# Altium integrated library KeetV2.IntLib: 72 symbols (part 3 of 3)
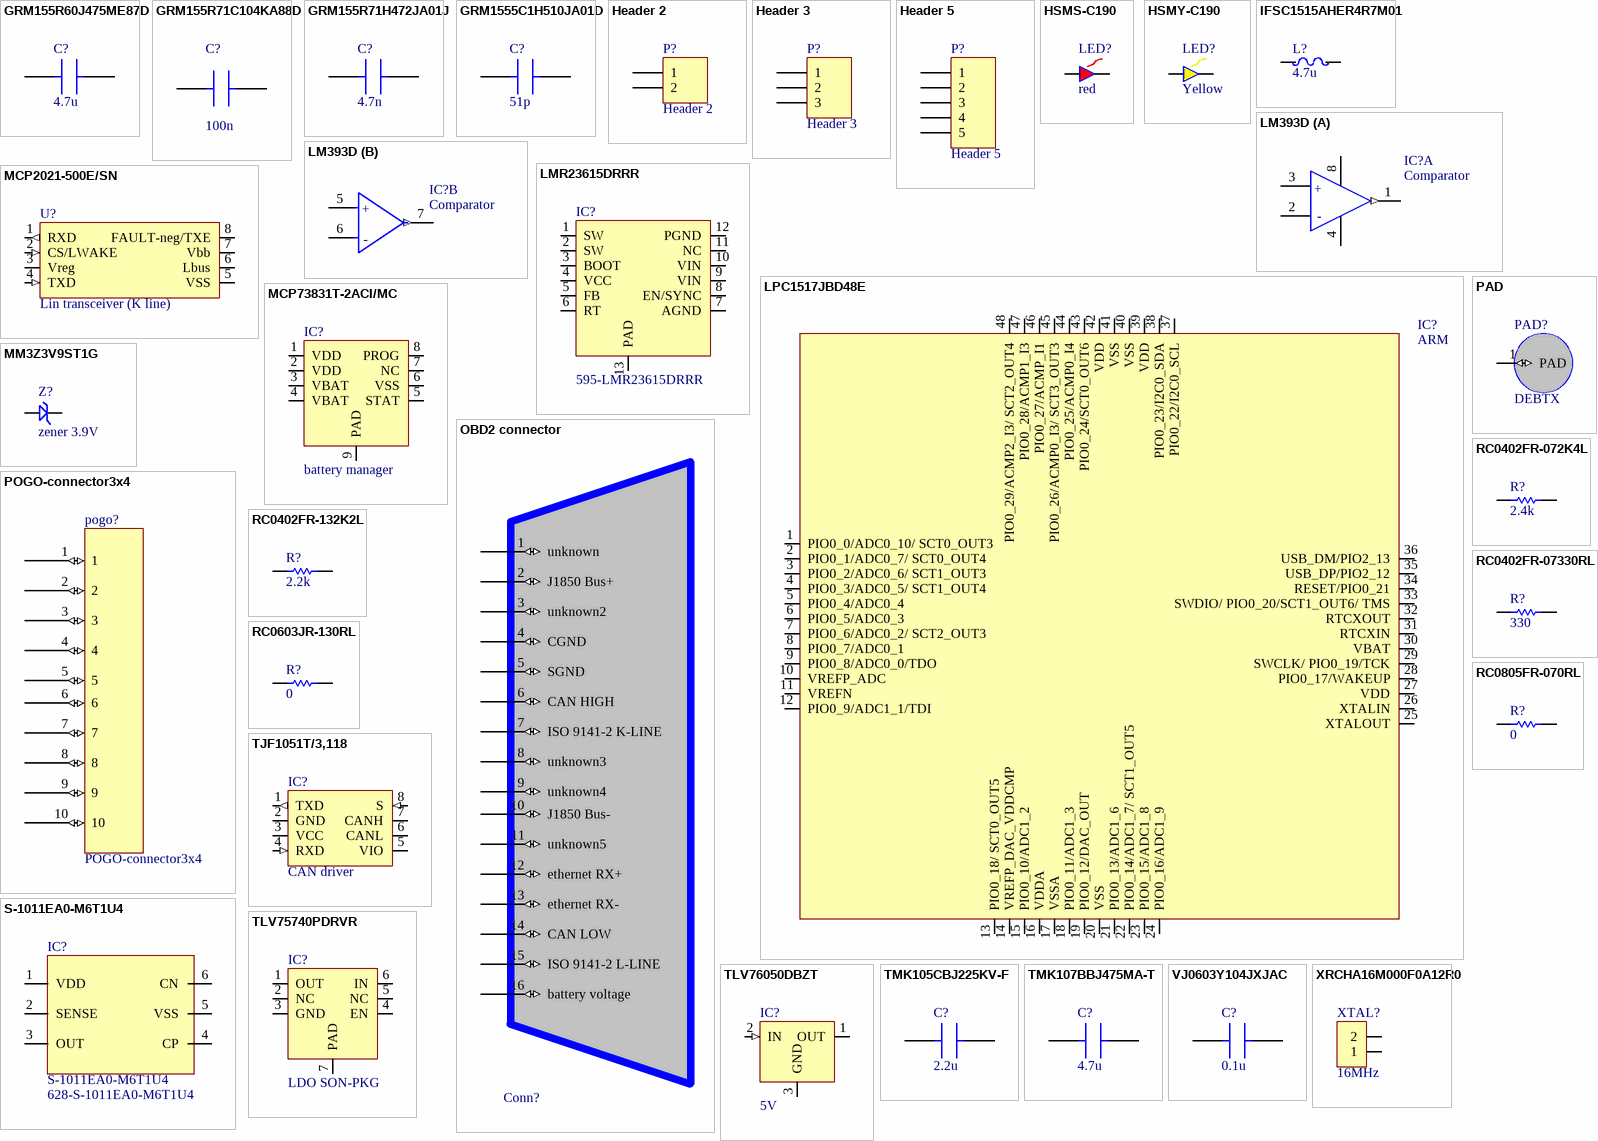
[diagram p3: symbols GRM155R60J475ME87D to XRCHA16M000F0A12R0]

## GRM155R71C104KA88D
designator C?, comment 100n
CAP CER 0.1UF 16V X7R 0402; Manufacturer: Murata; Manufacturer Part Number: GRM155R71C104KA88D; Material: Ceramic; Capacitance: 100nF; Tolerance: 10%; Insulation Resistance: 10GR; Supplier 1: Mouser; RoHS: Yes; Category: Ceramic Capacitors; Stock 1: 8059685; Pricing 1: 1=0,10000, 10=0,01200, 50=0,01200, 100=0,01000, 1000=0,00600, 10000=0,00300 (USD); Mount: Surface Mount; Case/Package: 0402; Number of Pins: 2; Case Code (Metric): 1005; Case Code (Imperial): 0402; Dielectric Material: Ceramic; Min Operating Temperature: -55°C; Max Operating Temperature: 125°C; Dielectric: X7R; Voltage Rating: 16V; Packaging: Tape and Reel; Voltage Rating (DC): 16V; Package Quantity: 1; Termination: SMD/SMT; Voltage: 16V; Length: 1mm; Width: 0.5mm; Height: 0.5mm; Thickness: 0.022inch; Depth: 0.5mm; Radiation Hardening: No; REACH SVHC: No SVHC; Lead Free: Lead Free; RoHS Compliant: Yes; ComponentLink1URL: https://datasheet.ciiva.com/18102/getdatasheetpartid-85307-18102905.pdf?src-supplier=Verical; ComponentLink1Description: https://datasheet.ciiva.com/18102/getdatasheetpartid-85307-18102905.pdf?src-supplier=Verical; ComponentLink2URL: https://datasheet.ciiva.com/129/grm155r71c104ka88-01-129739.pdf?src-supplier=Digi-Key; ComponentLink2Description: https://datasheet.ciiva.com/129/grm155r71c104ka88-01-129739.pdf?src-supplier=Digi-Key; ComponentLink3URL: https://datasheet.ciiva.com/129/grm155r71c104ka88-01-129740.pdf?src-supplier=Digi-Key; ComponentLink3Description: https://datasheet.ciiva.com/129/grm155r71c104ka88-01-129740.pdf?src-supplier=Digi-Key; ComponentLink4URL: https://datasheet.ciiva.com/29199/454098-da-01-en-vs-kondensator-0402-29199799.pdf?src-supplier=Conrad; ComponentLink4Description: https://datasheet.ciiva.com/29199/454098-da-01-en-vs-kondensator-0402-29199799.pdf?src-supplier=Conrad; ComponentLink5URL: https://datasheet.ciiva.com/28534/4360-28534133.pdf?src-supplier=Element14; ComponentLink5Description: https://datasheet.ciiva.com/28534/4360-28534133.pdf?src-supplier=Element14; ComponentLink6URL: https://datasheet.ciiva.com/14103/grmseries-highdielectrictype-eng-14103750.pdf?src-supplier=Distrelec; ComponentLink6Description: https://datasheet.ciiva.com/14103/grmseries-highdielectrictype-eng-14103750.pdf?src-supplier=Distrelec; ComponentLink7URL: https://datasheet.ciiva.com/16199/product-16199000.pdf?src-supplier=Future+Electronics; ComponentLink7Description: https://datasheet.ciiva.com/16199/product-16199000.pdf?src-supplier=Future+Electronics; ComponentLink8URL: https://datasheet.ciiva.com/14116/grmseries-highdielectrictype-eng-14116878.pdf?src-supplier=Distrelec; ComponentLink8Description: https://datasheet.ciiva.com/14116/grmseries-highdielectrictype-eng-14116878.pdf?src-supplier=Distrelec; ComponentLink9URL: https://datasheet.ciiva.com/7937/4360-7937615.pdf?src-supplier=Element14; ComponentLink9Description: https://datasheet.ciiva.com/7937/4360-7937615.pdf?src-supplier=Element14; ComponentLink10URL: https://datasheet.ciiva.com/28534/4360-28534127.pdf?src-supplier=Element14; ComponentLink10Description: https://datasheet.ciiva.com/28534/4360-28534127.pdf?src-supplier=Element14; Supplier Part Number 1: 81-GRM155R71C104KA88
footprint CAPC1005X06N (Chip Capacitor, 0420, 2-Leads, Body 1,02x0,50mm, IPC Medium Density)
pins: 1, 2

## GRM155R71H472JA01J
designator C?, comment 4.7n
Multilayer Ceramic Capacitors MLCC - SMD/SMT; Manufacturer: Murata; Manufacturer Part Number: GRM155R71H472JA01J; Dielectric: X7R; Capacitance: 4.7nF; Voltage Rating (DC): 50V; Tolerance: 5%; Supplier 1: Mouser; RoHS: Yes; Category: Ceramic Capacitors; Stock 1: 49652; Pricing 1: 1=0,10000, 10=0,03400, 50=0,03400, 100=0,01500, 1000=0,00900, 10000=0,00600 (USD); Case/Package: 0402; Case Code (Imperial): 0402; Case Code (Metric): 1005; Weight: 0.000212oz; Min Operating Temperature: -55°C; Max Operating Temperature: 125°C; Packaging: Tape and Reel; Termination: SMD/SMT; Package Quantity: 50000; Length: 1mm; Width: 0.5mm; Height: 0.5mm; Thickness: 500um; RoHS Compliant: Yes; ComponentLink1URL: http://www.mouser.com/ds/2/281/c02e-2905.pdf?src-supplier=Mouser; ComponentLink1Description: http://www.mouser.com/ds/2/281/c02e-2905.pdf?src-supplier=Mouser; Supplier Part Number 1: 81-GRM155R71H472JA1J
footprint CAPC1005X06N (Chip Capacitor, 0420, 2-Leads, Body 1,02x0,50mm, IPC Medium Density)
pins: 1, 2

## GRM1555C1H510JA01D
designator C?, comment 51p
CAP CER 51PF 50V C0G/NP0 0402; Manufacturer: Murata; Manufacturer Part Number: GRM1555C1H510JA01D; Tolerance: 5%; Dielectric: C0G; Supplier 1: Mouser; RoHS: Yes; Category: Ceramic Capacitors; Stock 1: 25277; Pricing 1: 1=0,10000, 10=0,06000, 50=0,06000, 100=0,02600, 1000=0,01400, 10000=0,01100 (USD); Mount: Surface Mount; Case/Package: 0402; Case Code (Metric): 1005; Case Code (Imperial): 0402; Min Operating Temperature: -55°C; Max Operating Temperature: 125°C; Capacitance: 51pF; Packaging: Tape and Reel; Voltage Rating: 50V; Package Quantity: 10000; Voltage Rating (DC): 50V; Termination: SMD/SMT; Voltage: 50V; Length: 1mm; Width: 0.02inch; Height: 0.5mm; Thickness: 0.022inch; Depth: 0.5mm; Radiation Hardening: No; Lead Free: Lead Free; ComponentLink1URL: https://datasheet.ciiva.com/11606/product-11606259.pdf?src-supplier=Avnet; ComponentLink1Description: https://datasheet.ciiva.com/11606/product-11606259.pdf?src-supplier=Avnet; ComponentLink2URL: https://datasheet.ciiva.com/6263/grm1555c1h510ja01-01-6263865.pdf?src-supplier=Digi-Key; ComponentLink2Description: https://datasheet.ciiva.com/6263/grm1555c1h510ja01-01-6263865.pdf?src-supplier=Digi-Key; ComponentLink3URL: https://datasheet.ciiva.com/6263/partnumbering-e-01-6263868.pdf?src-supplier=Digi-Key; ComponentLink3Description: https://datasheet.ciiva.com/6263/partnumbering-e-01-6263868.pdf?src-supplier=Digi-Key; ComponentLink4URL: https://datasheet.ciiva.com/6263/partnumbering-e-01-6263870.pdf?src-supplier=Digi-Key; ComponentLink4Description: https://datasheet.ciiva.com/6263/partnumbering-e-01-6263870.pdf?src-supplier=Digi-Key; Supplier Part Number 1: 81-GRM1555C1H510JA1D
footprint CAPC1005X06N (Chip Capacitor, 0420, 2-Leads, Body 1,02x0,50mm, IPC Medium Density)
pins: 1, 2

## Header 2
designator P?
Header, 2-Pin; LatestRevisionDate: 17-Jul-2002; LatestRevisionNote: Re-released for DXP Platform.; Publisher: Altium Limited
footprint HDR1X2 (Connector; Header; 2 Position)
signal-integrity model Connector
pins: 1, 2

## Header 3
designator P?
Header, 3-Pin; LatestRevisionDate: 17-Jul-2002; LatestRevisionNote: Re-released for DXP Platform.; Publisher: Altium Limited
footprint HDR1X3 (Connector; Header; 3 Position)
signal-integrity model Connector
pins: 1, 2, 3

## Header 5
designator P?
Header, 5-Pin; LatestRevisionDate: 17-Jul-2002; LatestRevisionNote: Re-released for DXP Platform.; Publisher: Altium Limited
footprint HDR1X5 (Connector; Header; 5 Position)
signal-integrity model Connector
pins: 1, 2, 3, 4, 5

## HSMS-C190
designator LED?, comment red
AVAGO TECHNOLOGIES - HSMS-C190 - LED, RED, 10MCD, 626NM; Manufacturer: Broadcom Avago; Lens Color: White; Forward Voltage: 2.1V; Viewing Angle: 170°; Lens Style: Diffused,Colorless,Rectangular; Forward Current: 20mA; Lens Transparency: Diffused; Power Dissipation: 52mW; Number of Elements: 1; Reverse Voltage: 5V; Supplier 1: Mouser; Manufacturer Part Number: HSMS-C190; RoHS: Yes; Category: LEDs; Stock 1: 51818; Pricing 1: 1=0,41000, 10=0,28800, 50=0,28800, 100=0,12800, 1000=0,09400, 10000=0,06400 (USD); Mount: Surface Mount; Case/Package: 0603; Number of Pins: 2; Color: Red; Case Code (Metric): 1608; Case Code (Imperial): 0603; Min Operating Temperature: -40°C; Max Operating Temperature: 85°C; Luminous Intensity: 10mcd; Packaging: Tape and Reel; Wavelength: 626nm; Dominant Wavelength: 626nm; Test Current: 20mA; Package Quantity: 4000; Illumination Color: Red; Power Rating: 52mW; Number of LEDs: 1; Series: -; Length: 1.6mm; Width: 0.8mm; Height: 0.8mm; Depth: 0.8mm; Radiation Hardening: No; REACH SVHC: No SVHC; Lead Free: Lead Free; RoHS Compliant: Yes; Supplier Part Number 1: 630-HSMS-C190
footprint CAC-0P80X160-2N_ver2 (Chip Array, Concave, 2-Leads, Pitch 0,00mm,  Body 0,80x1,60mm,  IPC Medium Density)
pins: 1 K, 2 A

## HSMY-C190
designator LED?, comment Yellow
LED, YELLOW, 8MCD, 586NM; LED Colour:Yellow; Bulb Size:-; Wavelength Typ:586nm; Forward Voltage:2.1V; Forward Current If:20mA; Luminous Intensity:8mcd; LED Mounting:SMD; Lens Shape:Rectangular; Viewing Angle:170 ; Packaging:Cut Tape;;RoHS Compliant: Yes; Manufacturer: Broadcom Avago; Manufacturer Part Number: HSMY-C190; Lens Color: White; Number of Terminals/Pins: 2; Lens Style: Rectangular,Untinted,Diffused,Colorless; Forward Voltage: 2.1V; Viewing Angle: 170°; Forward Current: 20mA; Lens Transparency: Diffused; Power Dissipation: 52mW; Number of Elements: 1; Reverse Voltage: 5V; Supplier 1: Mouser; RoHS: Yes; Category: LEDs; Stock 1: 44023; Pricing 1: 1=0,41000, 10=0,28800, 50=0,28800, 100=0,12800, 1000=0,09400, 10000=0,06400 (USD); Mount: Surface Mount; Case/Package: 0603; Number of Pins: 2; Color: Yellow; Case Code (Metric): 1608; Case Code (Imperial): 0603; Shape: Rectangular; Contact Plating: Gold; Min Operating Temperature: -40°C; Max Operating Temperature: 85°C; Luminous Intensity: 8mcd; Wavelength: 586nm; Packaging: Tape and Reel; Dominant Wavelength: 586nm; Test Current: 20mA; Package Quantity: 1; Illumination Color: Yellow; Power Rating: 52mW; Max Power Dissipation: 52mW; Number of LEDs: 1; Series: -; Length: 1.6mm; Width: 0.8mm; Height: 0.8mm; Depth: 0.8mm; Radiation Hardening: No; REACH SVHC: No SVHC; Lead Free: Lead Free; RoHS Compliant: Yes; ComponentLink1URL: https://datasheet.ciiva.com/34302/1557097-34302483.pdf?src-supplier=Jameco; ComponentLink1Description: https://datasheet.ciiva.com/34302/1557097-34302483.pdf?src-supplier=Jameco; ComponentLink2URL: https://datasheet.ciiva.com/15117/getdatasheetpartid-118294-15117593.pdf?src-supplier=Verical; ComponentLink2Description: https://datasheet.ciiva.com/15117/getdatasheetpartid-118294-15117593.pdf?src-supplier=Verical; ComponentLink3URL: https://datasheet.ciiva.com/11774/0900766b80ad69c9-11774266.pdf?src-supplier=RSComponents; ComponentLink3Description: https://datasheet.ciiva.com/11774/0900766b80ad69c9-11774266.pdf?src-supplier=RSComponents; ComponentLink4URL: https://datasheet.ciiva.com/29280/180660-da-01-en-chip-led-hsmy-c190-gelb-29280613.pdf?src-supplier=Conrad; ComponentLink4Description: https://datasheet.ciiva.com/29280/180660-da-01-en-chip-led-hsmy-c190-gelb-29280613.pdf?src-supplier=Conrad; ComponentLink5URL: https://datasheet.ciiva.com/14172/swseriehsmx-c150toc190-e-14172172.pdf?src-supplier=Distrelec; ComponentLink5Description: https://datasheet.ciiva.com/14172/swseriehsmx-c150toc190-e-14172172.pdf?src-supplier=Distrelec; Supplier Part Number 1: 630-HSMY-C190
footprint CAC-0P80X160-2N_ver2 (Chip Array, Concave, 2-Leads, Pitch 0,00mm,  Body 0,80x1,60mm,  IPC Medium Density)
pins: 1 K, 2 A

## IFSC1515AHER4R7M01
designator L?, comment 4.7u
Inductor Power Shielded Wirewound 4.7uH 20% 100KHz 2.2A 90mOhm DCR 1515 T/R; Manufacturer: Vishay Dale; Manufacturer Part Number: IFSC1515AHER4R7M01; Saturation Current: 2A; DC Resistance (DCR): 90mR; Supplier 1: Mouser; RoHS: Yes; Category: Fixed Inductors; Stock 1: 16855; Pricing 1: 1=0,64000, 10=0,55900, 50=0,55900, 100=0,33500, 1000=0,26800, 10000=0,20300 (USD); Mount: Surface Mount; Case/Package: 1515; Number of Pins: 2; Min Operating Temperature: -55°C; Max Operating Temperature: 125°C; Inductance Tolerance: 20%; Package Quantity: 2000; Current Rating: 2.2A; Tolerance: 20%; Shielding: Shielded; Packaging: Tape and Reel; Inductance: 4.7uH; Test Frequency: 100kHz; Max DC Current: 2A; Termination: SMD/SMT; RMS Current (Irms): 2.2A; Series: IFSC-1515AH-01; Length: 0.15inch; Width: 0.15inch; Height: 1.8mm; Height - Seated (Max): 0.075inch; Depth: 4mm; REACH SVHC: Unknown; Military Standard: Not; Lead Free: Lead Free; RoHS Compliant: Yes; ComponentLink1URL: https://datasheet.ciiva.com/1049/sc15ah01-1049410.pdf?src-supplier=Digi-Key; ComponentLink1Description: https://datasheet.ciiva.com/1049/sc15ah01-1049410.pdf?src-supplier=Digi-Key; ComponentLink2URL: https://datasheet.ciiva.com/1049/sc15ah01-1049411.pdf?src-supplier=Digi-Key; ComponentLink2Description: https://datasheet.ciiva.com/1049/sc15ah01-1049411.pdf?src-supplier=Digi-Key; ComponentLink3URL: https://datasheet.ciiva.com/1049/sc15ah01-1049412.pdf?src-supplier=Digi-Key; ComponentLink3Description: https://datasheet.ciiva.com/1049/sc15ah01-1049412.pdf?src-supplier=Digi-Key; ComponentLink4URL: https://datasheet.ciiva.com/46395/1913058-46395302.pdf?src-supplier=Element14; ComponentLink4Description: https://datasheet.ciiva.com/46395/1913058-46395302.pdf?src-supplier=Element14; ComponentLink5URL: https://datasheet.ciiva.com/8494/sc15ah01-8494793.pdf?src-supplier=Avnet; ComponentLink5Description: https://datasheet.ciiva.com/8494/sc15ah01-8494793.pdf?src-supplier=Avnet; ComponentLink6URL: https://datasheet.ciiva.com/8017/sc15ah01-8017548.pdf?src-supplier=Element14; ComponentLink6Description: https://datasheet.ciiva.com/8017/sc15ah01-8017548.pdf?src-supplier=Element14; ComponentLink7URL: https://datasheet.ciiva.com/22726/1730404-22726061.pdf?src-supplier=Element14; ComponentLink7Description: https://datasheet.ciiva.com/22726/1730404-22726061.pdf?src-supplier=Element14; Supplier Part Number 1: 70-IFSC1515AHER4R7M0
footprint INDC4040X19N (Chip Inductor, 2-Leads, Body 4,00x4,00mm, IPC Medium Density)
pins: 1, 2

## LM393D
designator IC?, comment Comparator
TEXAS INSTRUMENTS - LM393D - COMPARATOR DUAL, SMD, SOIC8, 393; Nominal Supply Current: 1mA; Max Supply Voltage: 36V; Min Supply Voltage: 2V; Voltage Gain: 106.02dB; Input Offset Voltage (Vos): 5mV; Number of Channels: 2; Min Dual Supply Voltage: 1V; Max Dual Supply Voltage: 18V; Output Current: 20mA; Quiescent Current: 2.5mA; Response Time: 0.3us; Input Bias Current: 250nA; Max Supply Current: 500uA; Output Current per Channel: 6mA; Output Type: TTL; Dual Supply Voltage: 9V; Operating Supply Voltage: 28V; Supplier 1: Mouser; Manufacturer: Texas Instruments; Manufacturer Part Number: LM393D; RoHS: Yes; Category: Amplifiers - Op Amps, Buffer, Instrumentation; Stock 1: 7555; Pricing 1: 1=0,44000, 10=0,32700, 50=0,32700, 100=0,18200, 1000=0,12500, 10000=0,11700 (USD); Mount: Surface Mount; Case/Package: SOIC; Number of Pins: 8; Weight: 0.002561oz; Contact Plating: Gold; Min Operating Temperature: 0°C; Max Operating Temperature: 70°C; Packaging: Rail/Tube; Package Quantity: 75; Number of Elements: 2; Length: 4.9mm; Width: 3.91mm; Height: 1.58mm; Radiation Hardening: No; Lead Free: Lead Free; RoHS Compliant: Yes; REACH SVHC: No SVHC; ComponentLink1URL: https://datasheet.ciiva.com/15131/getdatasheetpartid-248499-15131100.pdf?src-supplier=Verical; ComponentLink1Description: https://datasheet.ciiva.com/15131/getdatasheetpartid-248499-15131100.pdf?src-supplier=Verical; ComponentLink2URL: https://datasheet.ciiva.com/2970/lm2903-2970514.pdf?src-supplier=Avnet; ComponentLink2Description: https://datasheet.ciiva.com/2970/lm2903-2970514.pdf?src-supplier=Avnet; ComponentLink3URL: https://datasheet.ciiva.com/1827/lm193-1827528.pdf?src-supplier=Digi-Key; ComponentLink3Description: https://datasheet.ciiva.com/1827/lm193-1827528.pdf?src-supplier=Digi-Key; ComponentLink4URL: https://datasheet.ciiva.com/1483/1633629-1483065.pdf?src-supplier=Element14; ComponentLink4Description: https://datasheet.ciiva.com/1483/1633629-1483065.pdf?src-supplier=Element14; ComponentLink5URL: https://datasheet.ciiva.com/16464/lm2903-16464313.pdf?src-supplier=Avnet+Asia; ComponentLink5Description: https://datasheet.ciiva.com/16464/lm2903-16464313.pdf?src-supplier=Avnet+Asia; Supplier Part Number 1: 595-LM393D
footprint SOIC127P600X175-8N (SOIC, 8-Leads, Body 4,90x3,90mm, Pitch 1,27mm, IPC Medium Density)
part A pins: 1 Out1 (out), 2 In1- (hiz), 3 In1+ (hiz), 4 Vcc- (power), 8 Vcc+ (power)
part B pins: 5 In2+ (hiz), 6 In2- (hiz), 7 Out2 (out)
part A text: +; -
part B text: +; -

## LMR23615DRRR
designator IC?, comment Supplier Part Number 1: 595-LMR23615DRRR  (hidden comment: DC/DC)
SIMPLE SWITCHER®, 36-V, 1.5-A Synchronous Step-Down Converter 12-SON -40 to 125; Manufacturer: Texas Instruments; Manufacturer Part Number: LMR23615DRRR; Output Type: Adjustable; Output Configuration: Positive; Number of Outputs: 1; Min Input Voltage: 4V; Max Input Voltage: 36V; Min Output Voltage: 1V; Max Output Voltage: 28V; Output Current: 1.5A; Switching Frequency: 2.425MHz; Synchronous Rectifier: Yes; Supplier 1: Mouser; RoHS: Yes; Category: Voltage Regulators - Switching; Stock 1: 2047; Pricing 1: 1=3,04000, 10=2,73000, 50=2,58000, 100=2,12000, 1000=1,53000, 10000=1,47000 (USD); Mount: Surface Mount; Min Operating Temperature: -40°C; Max Operating Temperature: 125°C; Features: UVLO; Packaging: Tape and Reel; RoHS Compliant: Yes; ComponentLink1URL: http://www.ti.com/lit/ds/symlink/lmr23615.pdf?src-supplier=Digi-Key; ComponentLink1Description: http://www.ti.com/lit/ds/symlink/lmr23615.pdf?src-supplier=Digi-Key
footprint SON50P300X80_HS-13N (SON, 12-Leads, Body 3,00x3,00mm, Pitch 0,50mm, Thermal Pad 2,45x1,70mm, IPC Medium Density)
pins: 1 SW, 2 SW, 3 BOOT, 4 VCC, 5 FB, 6 RT, 7 AGND, 8 EN/SYNC, 9 VIN, 10 VIN, 11 NC, 12 PGND, 13 PAD

## LPC1517JBD48E
designator IC?, comment ARM
IC MCU 32BIT 64KB FLASH 48LQFP; Manufacturer: NXP Semiconductors; Manufacturer Part Number: LPC1517JBD48E; RAM Size: 12KB; Max Power Dissipation: 1.5W; Interface: I2C,SPI,CAN,USART,UART; Number of I/Os: 32; Number of Timers/Counters: 4; Min Supply Voltage: 2.4V; Max Supply Voltage: 3.6V; Frequency: 72MHz; Oscillator Type: Internal; Data Bus Width: 32b; Watchdog Timer: Yes; Number of ADC Channels: 16; Peripherals: Brown-out Detect/Reset,POR,PWM,WDT,DMA; Operating Supply Voltage: 3.3V; Supplier 1: Mouser; RoHS: Yes; Category: Microcontrollers; Pricing 1: 1=5,33000, 10=4,52000, 50=4,52000, 100=3,72000, 1000=2,81000, 10000=2,81000 (USD); Mount: Surface Mount; Case/Package: LQFP; Number of Pins: 48; Weight: 6.287584oz; Min Operating Temperature: -40°C; Max Operating Temperature: 105°C; Package Quantity: 250; Packaging: Tray; Number of Programmable I/O: 32; Max Frequency: 72MHz; Memory Type: FLASH; Memory Size: 64KB; Core Architecture: ARM; Radiation Hardening: No; REACH SVHC: No SVHC; Lead Free: Lead Free; RoHS Compliant: Yes; ComponentLink1URL: https://datasheet.ciiva.com/29718/lpc15xx-29718830.pdf?src-supplier=Digi-Key; ComponentLink1Description: https://datasheet.ciiva.com/29718/lpc15xx-29718830.pdf?src-supplier=Digi-Key; Supplier Part Number 1: 771-LPC1517JBD48E
footprint TSQFP50P898X898X160-48N (TSQFP, 48-Leads, Body 7,00x7,00mm, Pitch 0,50mm, IPC Medium Density)
pins: 1 PIO0_0/ADC0_10/ SCT0_OUT3, 2 PIO0_1/ADC0_7/ SCT0_OUT4, 3 PIO0_2/ADC0_6/ SCT1_OUT3, 4 PIO0_3/ADC0_5/ SCT1_OUT4, 5 PIO0_4/ADC0_4, 6 PIO0_5/ADC0_3, 7 PIO0_6/ADC0_2/ SCT2_OUT3, 8 PIO0_7/ADC0_1, 9 PIO0_8/ADC0_0/TDO, 10 VREFP_ADC, 11 VREFN, 12 PIO0_9/ADC1_1/TDI, 13 PIO0_18/ SCT0_OUT5, 14 VREFP_DAC_VDDCMP, 15 PIO0_10/ADC1_2, 16 VDDA, 17 VSSA, 18 PIO0_11/ADC1_3, 19 PIO0_12/DAC_OUT, 20 VSS, 21 PIO0_13/ADC1_6, 22 PIO0_14/ADC1_7/ SCT1_OUT5, 23 PIO0_15/ADC1_8, 24 PIO0_16/ADC1_9, 25 XTALOUT, 26 XTALIN, 27 VDD, 28 PIO0_17/WAKEUP, 29 SWCLK/ PIO0_19/TCK, 30 VBAT, 31 RTCXIN, 32 RTCXOUT, 33 SWDIO/ PIO0_20/SCT1_OUT6/ TMS, 34 RESET/PIO0_21, 35 USB_DP/PIO2_12, 36 USB_DM/PIO2_13, 37 PIO0_22/I2C0_SCL, 38 PIO0_23/I2C0_SDA, 39 VDD, 40 VSS, 41 VSS, 42 VDD, 43 PIO0_24/SCT0_OUT6, 44 PIO0_25/ACMP0_I4, 45 PIO0_26/ACMP0_I3/ SCT3_OUT3, 46 PIO0_27/ACMP_I1, 47 PIO0_28/ACMP1_I3, 48 PIO0_29/ACMP2_I3/ SCT2_OUT4

## MCP2021-500E/SN
designator U?, comment Lin transceiver (K line)
LIN Transceiver with Integrated Vreg 5V 20kBd Automotive 8-Pin SOIC N; Manufacturer: Microchip; Manufacturer Part Number: MCP2021-500E/SN; Min Supply Voltage: 6V; Max Supply Voltage: 18V; Number of Transmitters: 1; Nominal Supply Current: 1mA; Supply Type: Single; Supplier 1: Mouser; RoHS: Yes; Category: Logic ICs; Stock 1: 971; Pricing 1: 1=1,32000, 10=1,32000, 50=1,10000, 100=1,00000, 1000=1,00000, 10000=1,00000 (USD); Mount: Surface Mount; Case/Package: SOIC; Number of Pins: 8; Weight: 0.005044oz; Min Operating Temperature: -40°C; Max Operating Temperature: 125°C; Packaging: Rail/Tube; Package Quantity: 100; Number of Receivers: 1; Operating Supply Current: 1mA; Number of Transceivers: 1; Max Supply Current: 1mA; Length: 4.9mm; Width: 3.9mm; Height: 1.25mm; Radiation Hardening: No; REACH SVHC: No SVHC; Lead Free: Lead Free; ComponentLink1URL: https://datasheet.ciiva.com/1700/22018f-1700070.pdf?src-supplier=Digi-Key; ComponentLink1Description: https://datasheet.ciiva.com/1700/22018f-1700070.pdf?src-supplier=Digi-Key; ComponentLink2URL: https://datasheet.ciiva.com/3036/22018e-3036758.pdf?src-supplier=Avnet; ComponentLink2Description: https://datasheet.ciiva.com/3036/22018e-3036758.pdf?src-supplier=Avnet; ComponentLink3URL: https://datasheet.ciiva.com/1506/1789202-1506521.pdf?src-supplier=Element14; ComponentLink3Description: https://datasheet.ciiva.com/1506/1789202-1506521.pdf?src-supplier=Element14; ComponentLink4URL: https://datasheet.ciiva.com/16500/filehandler-aspxddocname-en557254-16500153.pdf?src-supplier=Future+Electronics; ComponentLink4Description: https://datasheet.ciiva.com/16500/filehandler-aspxddocname-en557254-16500153.pdf?src-supplier=Future+Electronics; Supplier Part Number 1: 579-MCP2021-500E/SN
footprint SOP127P600X175-8N (SOP, 8-Leads, Body 4,90x3,90mm, Pitch 1,27mm, IPC Medium Density)
pins: 1 RXD (out), 2 CS/LWAKE (in), 3 Vreg, 4 TXD (in), 5 VSS, 6 Lbus (io), 7 Vbb, 8 FAULT-neg/TXE (io)

## MCP73831T-2ACI/MC
designator IC?, comment battery manager
IC CONTROLLER LI-ION 4.2V 8DFN; Manufacturer: Microchip; Manufacturer Part Number: MCP73831T-2ACI/MC; Output Current: 500mA; Max Input Voltage: 7V; Number of Channels: 1; Min Supply Voltage: 3.75V; Max Supply Voltage: 6V; Operating Supply Current: 510uA; Supplier 1: Mouser; RoHS: Yes; Category: Battery Management; Stock 1: 5377; Pricing 1: 1=0,62000, 10=0,62000, 50=0,51000, 100=0,47000, 1000=0,47000, 10000=0,47000 (USD); Mount: Surface Mount; Case/Package: DFN; Number of Pins: 8; Contact Plating: Tin,Matte; Min Operating Temperature: -40°C; Max Operating Temperature: 85°C; Output Voltage: 4.2V; Packaging: Tape and Reel; Package Quantity: 3300; Series: MCP73831; Radiation Hardening: No; Lead Free: Lead Free; RoHS Compliant: Yes; ComponentLink1URL: https://datasheet.ciiva.com/16466/21984e-16466086.pdf?src-supplier=Avnet+Asia; ComponentLink1Description: https://datasheet.ciiva.com/16466/21984e-16466086.pdf?src-supplier=Avnet+Asia; ComponentLink2URL: https://datasheet.ciiva.com/1933/21984e-1933405.pdf?src-supplier=Digi-Key; ComponentLink2Description: https://datasheet.ciiva.com/1933/21984e-1933405.pdf?src-supplier=Digi-Key; Supplier Part Number 1: 579-MCP73831T-2ACIMC
footprint PSON50P300X100_HS-9N (PSON, 8-Leads, Body 2,00x3,00mm, Pitch 0,50mm, Thermal Pad 1,63x1,43mm, IPC Medium Density)
pins: 1 VDD, 2 VDD, 3 VBAT, 4 VBAT, 5 STAT, 6 VSS, 7 NC, 8 PROG, 9 PAD

## MM3Z3V9ST1G
designator Z?, comment zener 3.9V
ON SEMICONDUCTOR - MM3Z3V9ST1G - Zener Single Diode, 3.9 V, 300 mW, SOD-323, 5 %, 2 Pins, 150 °C; Max Power Dissipation: 200mW; Tolerance: 2%; Zener Voltage: 4.025V; Impedance: 90R; Voltage Tolerance: 3%; Max Reverse Leakage Current: 3uA; Test Current: 5mA; ESD Protection: Yes; Supplier 1: Mouser; Manufacturer: ON Semiconductor; Manufacturer Part Number: MM3Z3V9ST1G; RoHS: Yes; Category: Zener Diodes; Stock 1: 32042; Pricing 1: 1=0,14000, 10=0,12500, 50=0,12500, 100=0,04400, 1000=0,03000, 10000=0,02000 (USD); Case/Package: SOD-323-2; Number of Pins: 2; Material: Plastic; Contact Plating: Tin,Matte; Min Operating Temperature: -65°C; Max Operating Temperature: 150°C; Packaging: Tape and Reel; Package Quantity: 3000; Element Configuration: Single; Voltage Rating (DC): 3.9V; Power Rating: 200mW; Power Dissipation: 200mW; Series: -; Length: 1.8mm; Width: 1.35mm; Height: 1mm; Radiation Hardening: No; Lead Free: Lead Free; RoHS Compliant: Yes; ComponentLink1URL: https://datasheet.ciiva.com/899/mm3z2v4st1-d-899781.pdf?src-supplier=Digi-Key; ComponentLink1Description: https://datasheet.ciiva.com/899/mm3z2v4st1-d-899781.pdf?src-supplier=Digi-Key; Supplier Part Number 1: 863-MM3Z3V9ST1G
footprint SODFL250X100-2N (SODFL, 2-Leads, Body 1,25x2,50mm, IPC Medium Density)
pins: 1, 2

## OBD2 connector
designator Conn?  (value not drawn)
footprint OBD2
pins: 1 unknown (io), 2 J1850 Bus+ (io), 3 unknown2 (io), 4 CGND (io), 5 SGND (io), 6 CAN HIGH (io), 7 ISO 9141-2 K-LINE (io), 8 unknown3 (io), 9 unknown4 (io), 10 J1850 Bus- (io), 11 unknown5 (io), 12 ethernet RX+ (io), 13 ethernet RX- (io), 14 CAN LOW (io), 15 ISO 9141-2 L-LINE (io), 16 battery voltage (io)

## PAD
designator PAD?, comment DEBTX
just a pad
footprint PAD
pins: 1 PAD (io)

## POGO-connector3x4
designator pogo?
pad layout for external pogo connector
footprint POGO_connector_3x4
footprint POGO_fisico (questo è il pogo fisico. l'altro pogo è l'impronta di questo)
pins: 1 (io), 2 (io), 3 (io), 4 (io), 5 (io), 6 (io), 7 (io), 8 (io), 9 (io), 10 (io)

## RC0402FR-072K4L
designator R?, comment 2.4k
Res Thick Film 0402 2.4K Ohm 1% 0.063W(1/16W) ±100ppm/C Epoxy Pad SMD T/R; Manufacturer: Yageo; Manufacturer Part Number: RC0402FR-072K4L; Resistance: 2.4kR; Power Rating: 63mW; Voltage Rating: 50V; Temperature Coefficient: 100ppm/°C; Supplier 1: Mouser; RoHS: Yes; Category: Chip SMD Resistors; Stock 1: 2143; Pricing 1: 1=0,10000, 10=0,01200, 50=0,01200, 100=0,00400, 1000=0,00400, 10000=0,00300 (USD); Case/Package: 0402; Case Code (Metric): 1005; Case Code (Imperial): 0402; Size Code: 0402; Min Operating Temperature: -55°C; Max Operating Temperature: 155°C; Packaging: Tape and Reel; Tolerance: 1%; Package Quantity: 1; Resistor Type: Thick Film; Number of Terminations: 2; Termination: SMD/SMT; Max Power Dissipation: 63mW; Voltage Rating (DC): 50V; Features: Moisture Resistant; Series: RC; Construction: Rectangular; Resistance Tolerance: 1%; Length: 1mm; Width: 0.02inch; Height: 0.016inch; Depth: 0.5mm; REACH SVHC: Unknown; Military Standard: Not; Lead Free: Lead Free; RoHS Compliant: Yes; ComponentLink1URL: https://datasheet.ciiva.com/2453/pyu-r-int-thick-7-2453427.pdf?src-supplier=Digi-Key; ComponentLink1Description: https://datasheet.ciiva.com/2453/pyu-r-int-thick-7-2453427.pdf?src-supplier=Digi-Key; ComponentLink2URL: https://datasheet.ciiva.com/2453/pyu-r-int-thick-7-2453428.pdf?src-supplier=Digi-Key; ComponentLink2Description: https://datasheet.ciiva.com/2453/pyu-r-int-thick-7-2453428.pdf?src-supplier=Digi-Key; ComponentLink3URL: https://datasheet.ciiva.com/2453/pyu-r-int-thick-7-2453429.pdf?src-supplier=Digi-Key; ComponentLink3Description: https://datasheet.ciiva.com/2453/pyu-r-int-thick-7-2453429.pdf?src-supplier=Digi-Key; ComponentLink4URL: https://datasheet.ciiva.com/7849/1018594-7849930.pdf?src-supplier=Element14; ComponentLink4Description: https://datasheet.ciiva.com/7849/1018594-7849930.pdf?src-supplier=Element14; ComponentLink5URL: https://datasheet.ciiva.com/7849/1018594-7849931.pdf?src-supplier=Element14; ComponentLink5Description: https://datasheet.ciiva.com/7849/1018594-7849931.pdf?src-supplier=Element14; ComponentLink6URL: https://datasheet.ciiva.com/17423/pyu-rc0402-51-rohs-l-6-r-17423915.pdf?src-supplier=Future+Electronics; ComponentLink6Description: https://datasheet.ciiva.com/17423/pyu-rc0402-51-rohs-l-6-r-17423915.pdf?src-supplier=Future+Electronics; ComponentLink7URL: https://datasheet.ciiva.com/12667/pyu-rc0402-51-rohs-l-6-r-12667437.pdf?src-supplier=Mouser; ComponentLink7Description: https://datasheet.ciiva.com/12667/pyu-rc0402-51-rohs-l-6-r-12667437.pdf?src-supplier=Mouser; Supplier Part Number 1: 603-RC0402FR-072K4L
footprint RESC1005X04N (Chip Resistor, 0402, 2-Leads, Body 1,00x0,50mm, IPC Medium Density)
pins: 1, 2

## RC0402FR-132K2L
designator R?, comment 2.2k
Thick Film Resistors - SMD 2.2K OHM 1%; Manufacturer: Yageo; Manufacturer Part Number: RC0402FR-132K2L; Resistance: 2.2kR; Temperature Coefficient: 100ppm/°C; Power Rating: 62.5mW; Voltage Rating: 50V; Supplier 1: Mouser; RoHS: Yes; Category: Chip SMD Resistors; Stock 1: 99082; Pricing 1: 1=0,10000, 10=0,01200, 50=0,01200, 100=0,00400, 1000=0,00400, 10000=0,00400 (USD); Case/Package: 0402; Contact Plating: Tin,Matte; Case Code (Imperial): 0402; Case Code (Metric): 1005; Min Operating Temperature: -55°C; Max Operating Temperature: 155°C; Tolerance: 1%; Resistor Type: Thick Film; Packaging: Tape and Reel; Termination: SMD/SMT; Series: RC; Construction: Rectangular; Length: 1mm; Width: 0.5mm; Height: 0.35mm; Depth: 0.5mm; Radiation Hardening: No; Military Standard: Not; RoHS Compliant: Yes; ComponentLink1URL: https://datasheet.ciiva.com/8894/pyu-rc0402-51-rohs-l-6-8894632.pdf?src-supplier=Avnet; ComponentLink1Description: https://datasheet.ciiva.com/8894/pyu-rc0402-51-rohs-l-6-8894632.pdf?src-supplier=Avnet; ComponentLink2URL: https://datasheet.ciiva.com/16865/pyu-rc0402-51-rohs-l-6-16865051.pdf?src-supplier=Avnet+Europe; ComponentLink2Description: https://datasheet.ciiva.com/16865/pyu-rc0402-51-rohs-l-6-16865051.pdf?src-supplier=Avnet+Europe; ComponentLink3URL: https://datasheet.ciiva.com/12575/pyu-rc0402-51-rohs-l-6-r-8721-12575132.pdf?src-supplier=Mouser; ComponentLink3Description: https://datasheet.ciiva.com/12575/pyu-rc0402-51-rohs-l-6-r-8721-12575132.pdf?src-supplier=Mouser; Supplier Part Number 1: 603-RC0402FR-132K2L
footprint RESC1005X04N (Chip Resistor, 0402, 2-Leads, Body 1,00x0,50mm, IPC Medium Density)
pins: 1, 2

## RC0402FR-07330RL
designator R?, comment 330
Res Thick Film 0402 330 Ohm 1% 0.063W(1/16W) ±100ppm/C Pad SMD T/R; Manufacturer: Yageo; Manufacturer Part Number: RC0402FR-07330RL; Resistance: 330R; Temperature Coefficient: 100ppm/°C; Power Rating: 62.5mW; Voltage Rating: 50V; Max Power Dissipation: 63mW; Supplier 1: Mouser; RoHS: Yes; Category: Chip SMD Resistors; Stock 1: 904299; Pricing 1: 1=0,10000, 10=0,01200, 50=0,01200, 100=0,00400, 1000=0,00400, 10000=0,00300 (USD); Case/Package: 0402; Case Code (Metric): 1005; Case Code (Imperial): 0402; Size Code: 0402; Min Operating Temperature: -55°C; Max Operating Temperature: 155°C; Packaging: Tape and Reel; Tolerance: 1%; Package Quantity: 1; Resistor Type: Thick Film; Number of Terminations: 2; Termination: SMD/SMT; Features: Moisture Resistant; Series: RC; Construction: Rectangular; Technology: THICK FILM; Resistance Tolerance: 1%; Length: 0.039inch; Width: 0.02inch; Height: 0.016inch; Depth: 0.5mm; RoHS Compliant: Yes; REACH SVHC: Unknown; Military Standard: Not; Lead Free: Lead Free; ComponentLink1URL: https://datasheet.ciiva.com/11819/0900766b80c66297-11819490.pdf?src-supplier=RSComponents; ComponentLink1Description: https://datasheet.ciiva.com/11819/0900766b80c66297-11819490.pdf?src-supplier=RSComponents; ComponentLink2URL: https://datasheet.ciiva.com/7849/1018594-7849962.pdf?src-supplier=Element14; ComponentLink2Description: https://datasheet.ciiva.com/7849/1018594-7849962.pdf?src-supplier=Element14; ComponentLink3URL: https://datasheet.ciiva.com/17083/pyu-rc0402-51-rohs-l-6-r-17083994.pdf?src-supplier=Future+Electronics; ComponentLink3Description: https://datasheet.ciiva.com/17083/pyu-rc0402-51-rohs-l-6-r-17083994.pdf?src-supplier=Future+Electronics; ComponentLink4URL: https://datasheet.ciiva.com/7849/1018594-7849963.pdf?src-supplier=Element14; ComponentLink4Description: https://datasheet.ciiva.com/7849/1018594-7849963.pdf?src-supplier=Element14; ComponentLink5URL: https://datasheet.ciiva.com/2453/pyu-r-int-thick-7-2453661.pdf?src-supplier=Digi-Key; ComponentLink5Description: https://datasheet.ciiva.com/2453/pyu-r-int-thick-7-2453661.pdf?src-supplier=Digi-Key; ComponentLink6URL: https://datasheet.ciiva.com/2453/pyu-r-int-thick-7-2453662.pdf?src-supplier=Digi-Key; ComponentLink6Description: https://datasheet.ciiva.com/2453/pyu-r-int-thick-7-2453662.pdf?src-supplier=Digi-Key; ComponentLink7URL: https://datasheet.ciiva.com/2453/pyu-r-int-thick-7-2453663.pdf?src-supplier=Digi-Key; ComponentLink7Description: https://datasheet.ciiva.com/2453/pyu-r-int-thick-7-2453663.pdf?src-supplier=Digi-Key; ComponentLink8URL: https://datasheet.ciiva.com/12656/pyu-rc0402-51-rohs-l-6-r-12656815.pdf?src-supplier=Mouser; ComponentLink8Description: https://datasheet.ciiva.com/12656/pyu-rc0402-51-rohs-l-6-r-12656815.pdf?src-supplier=Mouser; Supplier Part Number 1: 603-RC0402FR-07330RL
footprint RESC1005X04N (Chip Resistor, 0402, 2-Leads, Body 1,00x0,50mm, IPC Medium Density)
pins: 1, 2

## RC0603JR-130RL
designator R?, comment 0
YAGEO - RC0603JR-130RL - RES, THICK FILM, 0R, 0.1W, 0603; Resistance: 0mR; Power Rating: 100mW; Voltage Rating: 50V; Tolerance: 1%; Temperature Coefficient: 200ppm/°C; Supplier 1: Mouser; Manufacturer: Yageo; Manufacturer Part Number: RC0603JR-130RL; RoHS: Yes; Category: Chip SMD Resistors; Stock 1: 5989; Pricing 1: 1=0,10000, 10=0,01500, 50=0,01500, 100=0,00500, 1000=0,00500, 10000=0,00500 (USD); Case/Package: 0603; Number of Pins: 2; Case Code (Imperial): 0603; Case Code (Metric): 1608; Contact Plating: Tin,Matte; Size Code: 0603; Min Operating Temperature: -55°C; Max Operating Temperature: 155°C; Packaging: Tape and Reel; Package Quantity: 5000; Resistor Type: Thick Film; Termination: SMD/SMT; Voltage Rating (DC): 50V; Series: RC; Construction: Rectangular; Length: 1.6mm; Width: 0.8mm; Height: 0.45mm; Depth: 0.8mm; Radiation Hardening: No; REACH SVHC: No SVHC; Military Standard: Not; Lead Free: Lead Free; RoHS Compliant: Yes; ComponentLink1URL: https://datasheet.ciiva.com/7983/443971-7983749.pdf?src-supplier=Element14; ComponentLink1Description: https://datasheet.ciiva.com/7983/443971-7983749.pdf?src-supplier=Element14; ComponentLink2URL: https://datasheet.ciiva.com/46395/443971-46395125.pdf?src-supplier=Element14; ComponentLink2Description: https://datasheet.ciiva.com/46395/443971-46395125.pdf?src-supplier=Element14; Supplier Part Number 1: 603-RC0603JR-130RL
footprint RESC1608X04N (Chip Resistor, 0603, 2-Leads, Body 1,60x0,80mm, IPC Medium Density)
pins: 1, 2

## RC0805FR-070RL
designator R?, comment 0
Res Thick Film 0805 0 Ohm Epoxy Pad SMD T/R; Manufacturer: Yageo; Manufacturer Part Number: RC0805FR-070RL; Resistance: 0mR; Tolerance: 1%; Power Rating: 125mW; Supplier 1: Mouser; RoHS: Yes; Category: Chip SMD Resistors; Stock 1: 103802; Pricing 1: 1=0,10000, 10=0,03400, 50=0,03400, 100=0,01300, 1000=0,00700, 10000=0,00400 (USD); Case/Package: 0805; Contact Plating: Tin,Matte; Case Code (Imperial): 0805; Case Code (Metric): 2012; Size Code: 0805; Min Operating Temperature: -55°C; Max Operating Temperature: 155°C; Resistor Type: Thick Film; Packaging: Tape and Reel; Features: Moisture Resistant; Series: RC; Max Power Dissipation: 125mW; Number of Terminations: 2; Construction: Rectangular; Length: 2mm; Depth: 1.25mm; Radiation Hardening: No; Military Standard: Not; Lead Free: Lead Free; RoHS Compliant: Yes; ComponentLink1URL: https://datasheet.ciiva.com/17042/rc0805-17042698.pdf?src-supplier=Future+Electronics; ComponentLink1Description: https://datasheet.ciiva.com/17042/rc0805-17042698.pdf?src-supplier=Future+Electronics; ComponentLink2URL: https://datasheet.ciiva.com/15189/getdatasheetpartid-348154-15189885.pdf?src-supplier=Verical; ComponentLink2Description: https://datasheet.ciiva.com/15189/getdatasheetpartid-348154-15189885.pdf?src-supplier=Verical; Supplier Part Number 1: 603-RC0805FR-070RL
footprint RESC2012X06N (Chip Resistor, 0805, 2-Leads, Body 2,00x1,25mm, IPC Medium Density)
pins: 1, 2

## S-1011EA0-M6T1U4
designator IC?  Supplier Part Number 1: 628-S-1011EA0-M6T1U4
Voltage detector; Manufacturer: ABLIC U.S.A.; Reset: Active Low; Number of Voltages Monitored: 1; Threshold Voltage: 10V; Supplier 1: Mouser; Manufacturer Part Number: S-1011EA0-M6T1U4; RoHS: No; Category: Voltage Supervisors; Stock 1: 20; Pricing 1: 1=0,99000, 10=0,88300, 50=0,88300, 100=0,60400, 1000=0,41900, 10000=0,37000 (USD); Mount: Surface Mount; Case/Package: SOT-23-6; Min Operating Temperature: -40°C; Max Operating Temperature: 85°C; Type: Voltage Detector; Packaging: Tape and Reel; ComponentLink1URL: https://www.ablic.com/en/doc/datasheet/voltage_detector/S1011_E.pdf?src-supplier=Digi-Key; ComponentLink1Description: https://www.ablic.com/en/doc/datasheet/voltage_detector/S1011_E.pdf?src-supplier=Digi-Key
footprint SOT95P245X110-6N (SOT23, 6-Leads, Body 2,90x2,45mm, Pitch 0,95mm, IPC Medium Density)
pins: 1 VDD, 2 SENSE, 3 OUT, 4 CP, 5 VSS, 6 CN

## TJF1051T/3,118
designator IC?, comment CAN driver
IC CAN TRANSEIVER HS 8SOIC; Manufacturer: NXP Semiconductors; Manufacturer Part Number: TJF1051T/3,118; Min Supply Voltage: 4.5V; Max Supply Voltage: 5.5V; Number of Transceivers: 1; Data Rate: 1Mbps; Nominal Supply Current: 70mA; Operating Supply Voltage: 5V; Simplex/Duplex: Half Duplex; Receiver Hysteresis: 120mV; Propagation Delay: 220ns; Supplier 1: Mouser; RoHS: Yes; Category: Interface ICs; Pricing 1: 1=1,03000, 10=0,87100, 50=0,87100, 100=0,59200, 1000=0,43600, 10000=0,41300 (USD); Mount: Surface Mount; Case/Package: SO; Number of Pins: 8; Min Operating Temperature: -40°C; Max Operating Temperature: 85°C; Packaging: Tape and Reel; Package Quantity: 2500; Supply Current: 70mA; Number of Transmitters: 1; Turn-On Delay Time: 220ns; Series: -; Radiation Hardening: No; RoHS Compliant: Yes; Lead Free: Lead Free; ComponentLink1URL: https://datasheet.ciiva.com/1767/tjf1051-1767282.pdf?src-supplier=Digi-Key; ComponentLink1Description: https://datasheet.ciiva.com/1767/tjf1051-1767282.pdf?src-supplier=Digi-Key; ComponentLink2URL: https://datasheet.ciiva.com/11212/tjf1051-11212991.pdf?src-supplier=Avnet; ComponentLink2Description: https://datasheet.ciiva.com/11212/tjf1051-11212991.pdf?src-supplier=Avnet; Supplier Part Number 1: 771-TJF1051T3118
footprint SOP127P600X175-8N (SOP, 8-Leads, Body 4,90x3,90mm, Pitch 1,27mm, IPC Medium Density)
pins: 1 TXD (out), 2 GND, 3 VCC, 4 RXD (in), 5 VIO, 6 CANL (io), 7 CANH (io), 8 S (in)

## TLV75740PDRVR
designator IC?, comment LDO SON-PKG
1-A, low-IQ, high-accuracy, low-dropout voltage regulator with enable 6-WSON -40 to 125; Manufacturer: Texas Instruments; Manufacturer Part Number: TLV75740PDRVR; Supplier 1: Mouser; RoHS: Yes; Category: Integrated Circuits (ICs); Stock 1: 5343; Pricing 1: 1=0,62000, 10=0,49000, 50=0,49000, 100=0,36400, 1000=0,21700, 10000=0,18000 (USD); Min Operating Temperature: -40°C; Max Operating Temperature: 125°C; RoHS Compliant: Yes; ComponentLink1URL: http://www.ti.com/general/docs/suppproductinfo.tsp?distId=10&amp;gotoUrl=http%3A%2F%2Fwww.ti.com%2Flit%2Fgpn%2Ftlv757p&src-supplier=Digi-Key; ComponentLink1Description: http://www.ti.com/general/docs/suppproductinfo.tsp?distId=10&amp;gotoUrl=http%3A%2F%2Fwww.ti.com%2Flit%2Fgpn%2Ftlv757p&src-supplier=Digi-Key; Supplier Part Number 1: 595-TLV75740PDRVR
footprint SON65P200X80_HS-7N (SON, 6-Leads, Body 2,00x2,00mm, Pitch 0,65mm, Thermal Pad 2,45x1,70mm, IPC Medium Density)
pins: 1 OUT, 2 NC, 3 GND, 4 EN, 5 NC, 6 IN, 7 PAD

## TLV76050DBZT
designator IC?, comment 5V
IC REG LINEAR 5V 100MA SOT23-3; Manufacturer: Texas Instruments; Manufacturer Part Number: TLV76050DBZT; Output Type: Fixed; Output Configuration: Positive; Number of Regulators: 1; Max Input Voltage: 30V; Dropout Voltage: 1.1V; Quiescent Current: 5mA; Supplier 1: Mouser; RoHS: Yes; Category: Voltage Regulators - Linear; Mount: Surface Mount; Case/Package: TO-236-3; Min Operating Temperature: -40°C; Max Operating Temperature: 125°C; Packaging: Tape and Reel; Min Output Voltage: 5V; Output Current: 100mA; RoHS Compliant: Yes; ComponentLink1URL: http://www.ti.com/general/docs/lit/getliterature.tsp?genericPartNumber=TLV760&fileType=pdf&src-supplier=Farnell; ComponentLink1Description: http://www.ti.com/general/docs/lit/getliterature.tsp?genericPartNumber=TLV760&fileType=pdf&src-supplier=Farnell; ComponentLink2URL: http://www.ti.com/lit/ds/symlink/tlv760.pdf?src-supplier=Digi-Key; ComponentLink2Description: http://www.ti.com/lit/ds/symlink/tlv760.pdf?src-supplier=Digi-Key; Supplier Part Number 1: 595-TLV76050DBZT
footprint SOT95P237X111-3N-ver2 (SOT23, 3-Leads, Body 2,90x2,37mm, Pitch 0,95mm, IPC Medium Density)
pins: 1 OUT, 2 IN (in), 3 GND

## TMK105CBJ225KV-F
designator C?, comment 2.2u
Multilayer Ceramic Capacitor 2.2uF 25V 10% 0402 Paper T/R; Manufacturer: Taiyo Yuden; Manufacturer Part Number: TMK105CBJ225KV-F; Supplier 1: Mouser; RoHS: Yes; Category: Ceramic Capacitors; Stock 1: 6971; Pricing 1: 1=0,24000, 10=0,09800, 50=0,09800, 100=0,06700, 1000=0,05000, 10000=0,03600 (USD); Lead Free: Lead Free; RoHS Compliant: Yes; ComponentLink1URL: http://www.farnell.com/datasheets/2801310.pdf?src-supplier=Farnell; ComponentLink1Description: http://www.farnell.com/datasheets/2801310.pdf?src-supplier=Farnell; ComponentLink2URL: http://www.farnell.com/datasheets/2801310.pdf?src-supplier=Newark; ComponentLink2Description: http://www.farnell.com/datasheets/2801310.pdf?src-supplier=Newark; ComponentLink3URL: http://www.farnell.com/datasheets/2801310.pdf?src-supplier=Element14; ComponentLink3Description: http://www.farnell.com/datasheets/2801310.pdf?src-supplier=Element14; ComponentLink4URL: https://ds.yuden.co.jp/TYCOMPAS/ut/detail?pn=TMK105CBJ225KV-F &amp;u=M&src-supplier=Digi-Key; ComponentLink4Description: https://ds.yuden.co.jp/TYCOMPAS/ut/detail?pn=TMK105CBJ225KV-F &amp;u=M&src-supplier=Digi-Key; Supplier Part Number 1: 963-TMK105CBJ225KV-F
footprint CAPC1005X06N (Chip Capacitor, 0420, 2-Leads, Body 1,02x0,50mm, IPC Medium Density)
pins: 1, 2

## TMK107BBJ475MA-T
designator C?, comment 4.7u
Cap Ceramic 4.7uF 25V X5R 20% SMD 0603 85°C Paper T/R; Manufacturer: Taiyo Yuden; Manufacturer Part Number: TMK107BBJ475MA-T; Supplier 1: Mouser; RoHS: Yes; Category: Ceramic Capacitors; Stock 1: 24308; Pricing 1: 1=0,35000, 10=0,15700, 50=0,15700, 100=0,10600, 1000=0,08200, 10000=0,06300 (USD); Mount: Surface Mount; Case/Package: 0603; Min Operating Temperature: -55°C; Max Operating Temperature: 85°C; Packaging: Tape and Reel; Capacitance: 4.7uF; Tolerance: 20%; Voltage Rating: 25V; RoHS Compliant: Yes; ComponentLink1URL: https://ds.yuden.co.jp/TYCOMPAS/ut/detail?pn=TMK107BBJ475MA-T &amp;u=M&src-supplier=Digi-Key; ComponentLink1Description: https://ds.yuden.co.jp/TYCOMPAS/ut/detail?pn=TMK107BBJ475MA-T &amp;u=M&src-supplier=Digi-Key; Supplier Part Number 1: 963-TMK107BBJ475MA-T
footprint CAPC1608X10N (capacitor, 0603)
pins: 1, 2

## VJ0603Y104JXJAC
designator C?, comment 0.1u
Cap Ceramic 0.1uF 16V X7R 5% SMD 0603 150°C Paper T/R; Manufacturer: Vishay Vitramon; Manufacturer Part Number: VJ0603Y104JXJAC; Capacitance: 100nF; Supplier 1: Mouser; RoHS: Yes; Category: Ceramic Capacitors; Stock 1: 29875; Pricing 1: 1=0,14000, 10=0,14000, 50=0,11300, 100=0,10100, 1000=0,08000, 10000=0,06700 (USD); Mount: Surface Mount; Case/Package: 0603; Number of Pins: 2; Case Code (Metric): 1608; Case Code (Imperial): 0603; Min Operating Temperature: -55°C; Max Operating Temperature: 125°C; Package Quantity: 4000; Tolerance: 5%; Packaging: Tape and Reel; Voltage Rating (DC): 16V; Dielectric: X7R; Voltage Rating: 16V; Termination: SMD/SMT; Series: VJ; Construction: Flat; Length: 1.6mm; Width: 0.031inch; Height: 0.92mm; Depth: 0.8mm; Thickness: 0.036inch; RoHS Compliant: Yes; REACH SVHC: Unknown; ComponentLink1URL: https://datasheet.ciiva.com/184/vjcommercialseries-184736.pdf?src-supplier=Digi-Key; ComponentLink1Description: https://datasheet.ciiva.com/184/vjcommercialseries-184736.pdf?src-supplier=Digi-Key; ComponentLink2URL: https://datasheet.ciiva.com/5447/vjcommercialseries-222796-5447114.pdf?src-supplier=Mouser; ComponentLink2Description: https://datasheet.ciiva.com/5447/vjcommercialseries-222796-5447114.pdf?src-supplier=Mouser; Supplier Part Number 1: 77-VJ0603Y104JXJAC
footprint CAPC1608X10N (capacitor, 0603)
pins: 1, 2

## XRCHA16M000F0A12R0
designator XTAL?, comment 16MHz
Crystal 16MHz ±100ppm (Tol) ±100ppm (Stability) 8pF 100Ohm Automotive 2-Pin SMD T/R; Manufacturer: Murata; Manufacturer Part Number: XRCHA16M000F0A12R0; Supplier 1: Mouser; RoHS: Yes; Stock 1: 50; Pricing 1: 1=0,65000, 10=0,57100, 50=0,51300, 100=0,45700, 1000=0,36500, 10000=0,30400 (USD); RoHS Compliant: Yes; ComponentLink1URL: http://www.mouser.com/ds/2/281/p79e-806516.pdf?src-supplier=Mouser; ComponentLink1Description: http://www.mouser.com/ds/2/281/p79e-806516.pdf?src-supplier=Mouser; Supplier Part Number 1: 81-XRCHA16M000F0A120
footprint DFN145P200X80-2N (DFN, 2-Leads, Body 2,50x2,00mm, Pitch 1,45mm, IPC Medium Density)
pins: 1, 2